# Altium schematic symbol library IC_HUB_FE1.1S.SchLib: 1 symbol
Pins are listed as number, name and electrical type; pins without a type are passive.

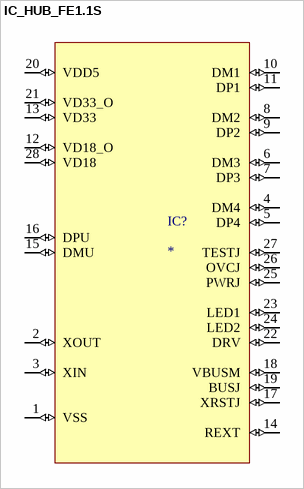
[diagram p0: symbol IC_HUB_FE1.1S]

## IC_HUB_FE1.1S
designator IC?
USB 2.0 HIGH SPEED 4-PORT HUB CONTROLLER; MF: terminus; MP: FE1.1S; SnapEDA_Link: https://www.snapeda.com/parts/FE1.1S/Terminus/view-part/?ref=snap; Package: None; Value: *; Check_prices: https://www.snapeda.com/parts/FE1.1S/Terminus/view-part/?ref=eda
footprint IC_FE1.1S
pins: 1 VSS (io), 2 XOUT (io), 3 XIN (io), 4 DM4 (io), 5 DP4 (io), 6 DM3 (io), 7 DP3 (io), 8 DM2 (io), 9 DP2 (io), 10 DM1 (io), 11 DP1 (io), 12 VD18_O (io), 13 VD33 (io), 14 REXT (io), 15 DMU (io), 16 DPU (io), 17 XRSTJ (io), 18 VBUSM (io), 19 BUSJ (io), 20 VDD5 (io), 21 VD33_O (io), 22 DRV (io), 23 LED1 (io), 24 LED2 (io), 25 PWRJ (io), 26 OVCJ (io), 27 TESTJ (io), 28 VD18 (io)